# EAGLE library part HEADER14 (library usevolt)
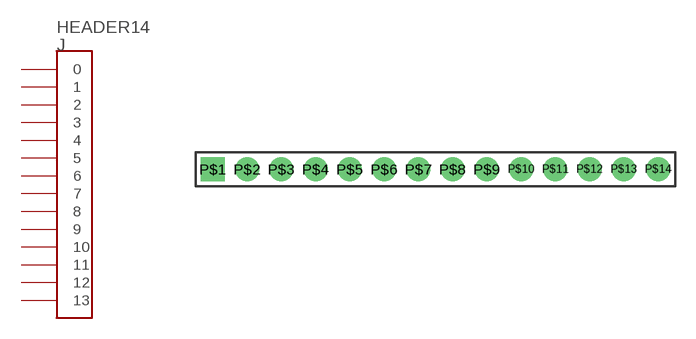
[diagram p2: symbol with the pads of HEADER14_1; footprint HEADER14_1]

Designator prefix J

## HEADER1414_1  [HEADER14_1]
P$1  0
P$2  1
P$3  2
P$4  3
P$5  4
P$6  5
P$7  6
P$8  7
P$9  8
P$10  9
P$11  10
P$12  11
P$13  12
P$14  13

## Footprint HEADER14_1 (pad centres in mm)
drill 1 pad 1.778 square: P$1 -16.51,0
drill 1 pad 1.778: P$2 -13.97,0; P$3 -11.43,0; P$4 -8.89,0; P$5 -6.35,0; P$6 -3.81,0; P$7 -1.27,0; P$8 1.27,0; P$9 3.81,0; P$10 6.35,0; P$11 8.89,0; P$12 11.43,0; P$13 13.97,0; P$14 16.51,0